# Altium schematic symbol library components.SchLib: 16 symbols
Pins are listed as number, name and electrical type; pins without a type are passive.

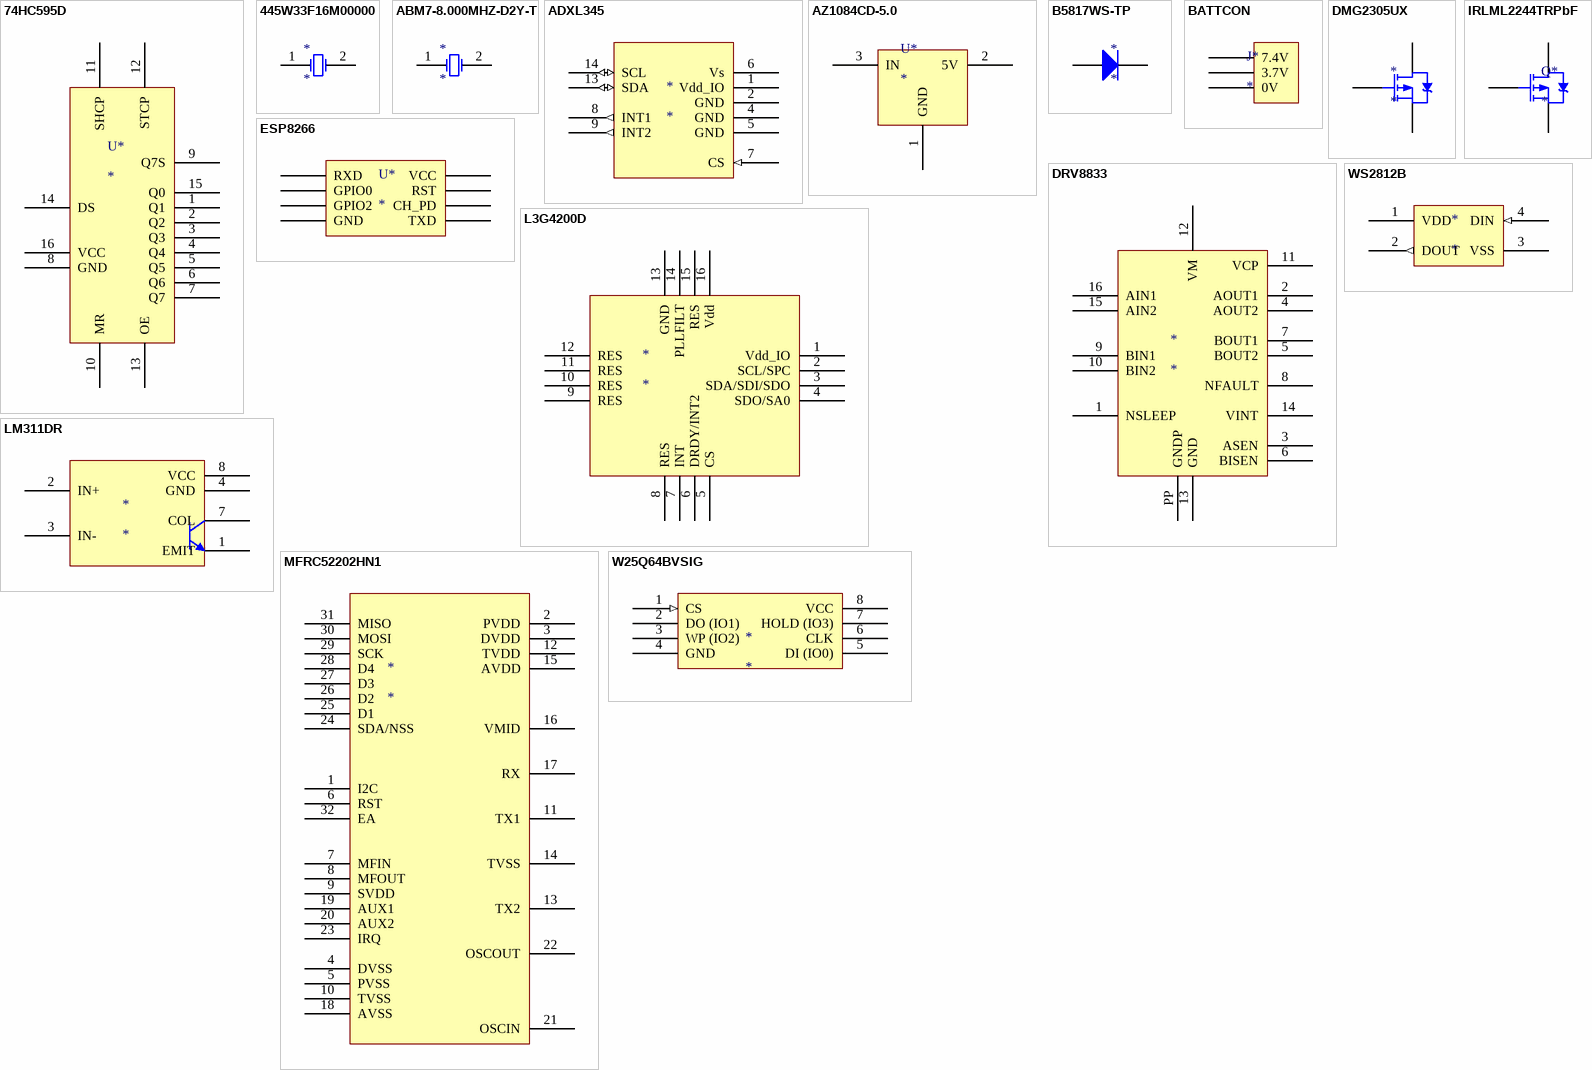
[diagram p0: symbols 74HC595D to WS2812B]

## 74HC595D
designator U*
footprint 74HC595D (SOIC, 16-Leads, Body 10.0x4.0mm (max), Pitch 1.27mm, IPC Low Density)
pins: 1 Q1, 2 Q2, 3 Q3, 4 Q4, 5 Q5, 6 Q6, 7 Q7, 8 GND, 9 Q7S, 10 MR, 11 SHCP, 12 STCP, 13 OE, 14 DS, 15 Q0, 16 VCC

## 445W33F16M00000
designator *
footprint 445W33F16M00000
pins: 1 OSC1, 2 OSC2

## ABM7-8.000MHZ-D2Y-T
designator *
pins: 1 OSC1, 2 OSC2

## ADXL345
designator *
footprint ADXL345 (BGA, 14-Leads, Body 5.0x3.0mm,  Pitch 0.80mm)
pins: 1 Vdd_IO (power), 2 GND (power), 4 GND (power), 5 GND (power), 6 Vs (power), 7 CS (in), 8 INT1 (out), 9 INT2 (out), 13 SDA (io), 14 SCL (io)

## AZ1084CD-5.0
designator U*
footprint AZ1084CD-5.0 (D-PAK, 3-Pads, Body 6.2x6.7mm (max), IPC Low Density)
pins: 1 GND, 2 5V, 3 IN

## B5817WS-TP
designator *
footprint SOD_323
pins: 1, 2

## BATTCON
designator J*
footprint S3B-XH-A(LF)(SN)
pins: 1 0V, 2 3.7V, 3 7.4V

## DMG2305UX
designator *
pins: D, G, S

## DRV8833
designator *
footprint DRV8833
pins: 1 NSLEEP, 2 AOUT1, 3 ASEN, 4 AOUT2, 5 BOUT2, 6 BISEN, 7 BOUT1, 8 NFAULT, 9 BIN1, 10 BIN2, 11 VCP, 12 VM, 13 GND, 14 VINT, 15 AIN2, 16 AIN1, PP GNDP

## ESP8266
designator U*
footprint ESP8266
pins: CH_PD, GND, GPIO0, GPIO2, RST, RXD, TXD, VCC

## IRLML2244TRPbF
designator Q*
footprint SOT23_NCH
pins: D, G, S

## L3G4200D
designator *
pins: 1 Vdd_IO, 2 SCL/SPC, 3 SDA/SDI/SDO, 4 SDO/SA0, 5 CS, 6 DRDY/INT2, 7 INT, 8 RES, 9 RES, 10 RES, 11 RES, 12 RES, 13 GND, 14 PLLFILT, 15 RES, 16 Vdd

## LM311DR
designator *
footprint LM311DR (SOIC, 8-Leads, Body 6.5x5.6mm (max), Pitch 1.27mm, IPC Low Density)
pins: 1 EMIT, 2 IN+, 3 IN-, 4 GND, 7 COL, 8 VCC

## MFRC52202HN1
designator *
footprint MFRC52202HN1 (QFN, 32-Leads, Body 5.1x5.1mm (max), Pitch 0.50mm, IPC Low Density)
pins: 1 I2C, 2 PVDD, 3 DVDD, 4 DVSS, 5 PVSS, 6 RST, 7 MFIN, 8 MFOUT, 9 SVDD, 10 TVSS, 11 TX1, 12 TVDD, 13 TX2, 14 TVSS, 15 AVDD, 16 VMID, 17 RX, 18 AVSS, 19 AUX1, 20 AUX2, 21 OSCIN, 22 OSCOUT, 23 IRQ, 24 SDA/NSS, 25 D1, 26 D2, 27 D3, 28 D4, 29 SCK, 30 MOSI, 31 MISO, 32 EA

## W25Q64BVSIG
designator *
footprint W25Q64BVSIG
pins: 1 CS (in), 2 DO (IO1), 3 WP (IO2), 4 GND (power), 5 DI (IO0), 6 CLK, 7 HOLD (IO3), 8 VCC (power)

## WS2812B
designator *
footprint WS2812B
pins: 1 VDD (power), 2 DOUT (out), 3 VSS (power), 4 DIN (in)